# Altium footprint library SER1052-402MLB.PcbLib: 1 footprints
Each footprint in its own frame and in the unit in brackets; x right, y up, seen from the top. Pads: shape width x height; smd on the part's side, far side on the other; paste and mask are expansions set on the pad; w line width, h text height; cw(c..) or ccw(c..) is an arc to the next point about the centre after c.
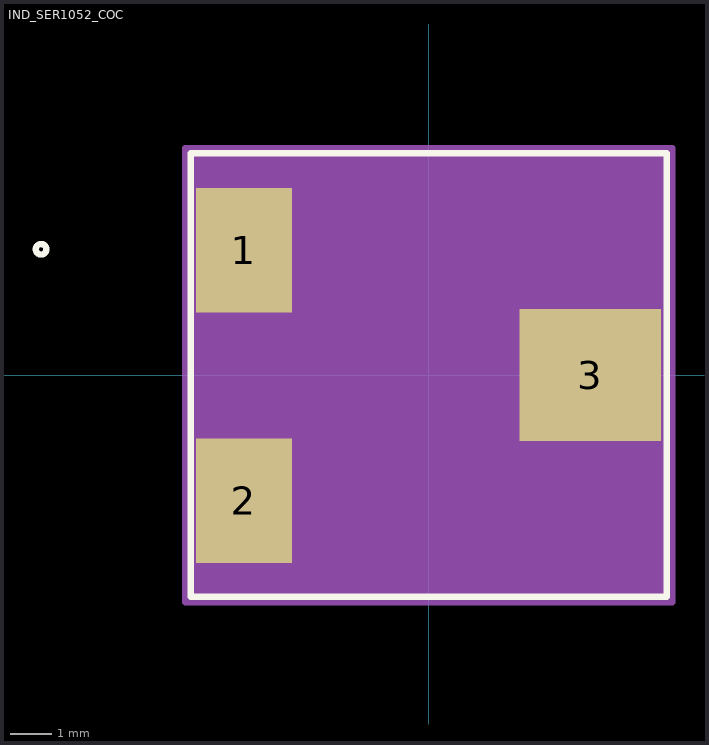
[diagram p0: the footprint, top view; thin cyan lines are the x and y axes]

## IND_SER1052_COC [mil]
pads (3):
  rect 91x118 smd paste-45.5 mask+0: 1(-175,118.11) 2(-175,-119.09)
  rect 134x125 smd paste-62.5 mask+0: 3(152.85,0)
Top Layer:
  region: 0,62.5
  region: 0,-62.5
Top Overlay:
  circle w6: c-367.09,119.09 r5
  lines w6: -225.5,-210 225.5,-210 225.5,210 -225.5,210 -225.5,-210
Top Paste:
  region: -3.94,58.56 -63.06,58.56 -63.06,3.94 -3.94,3.94
  region: -3.94,-3.94 -63.06,-3.94 -63.06,-58.56 -3.94,-58.56
  region: 63.06,58.56 3.94,58.56 3.94,3.94 63.06,3.94
  region: 63.06,-3.94 3.94,-3.94 3.94,-58.56 63.06,-58.56
Top Solder:
  region: 0,62.5
  region: 0,-62.5
Mechanical 13:
  circle w0: c-107.5,119.09 r3
  lines w0: -12,205 ccw(c0,205) 12,205
  lines w1: -220.5,-205 220.5,-205 220.5,205 -220.5,205 -220.5,-205
Mechanical 15:
  region: -230.5,-188.09 -230.5,188.09 -230.5,215 230.5,215 230.5,188.09 230.5,-188.09 230.5,-215 -230.5,-215
  lines w6: -230.5,-188.09 -230.5,188.09 ; -230.5,-188.09 -230.5,-188.09 ; -230.5,-188.09 -230.5,-215 230.5,-215 230.5,-188.09 ; -230.5,188.09 -230.5,188.09 ; -230.5,188.09 -230.5,215 230.5,215 230.5,188.09 ; 230.5,-188.09 230.5,188.09 ; 230.5,-188.09 230.5,-188.09 ; 230.5,188.09 230.5,188.09